# Altium schematic symbol library CustomParts.SchLib: 9 symbols
Pins are listed as number, name and electrical type; pins without a type are passive.

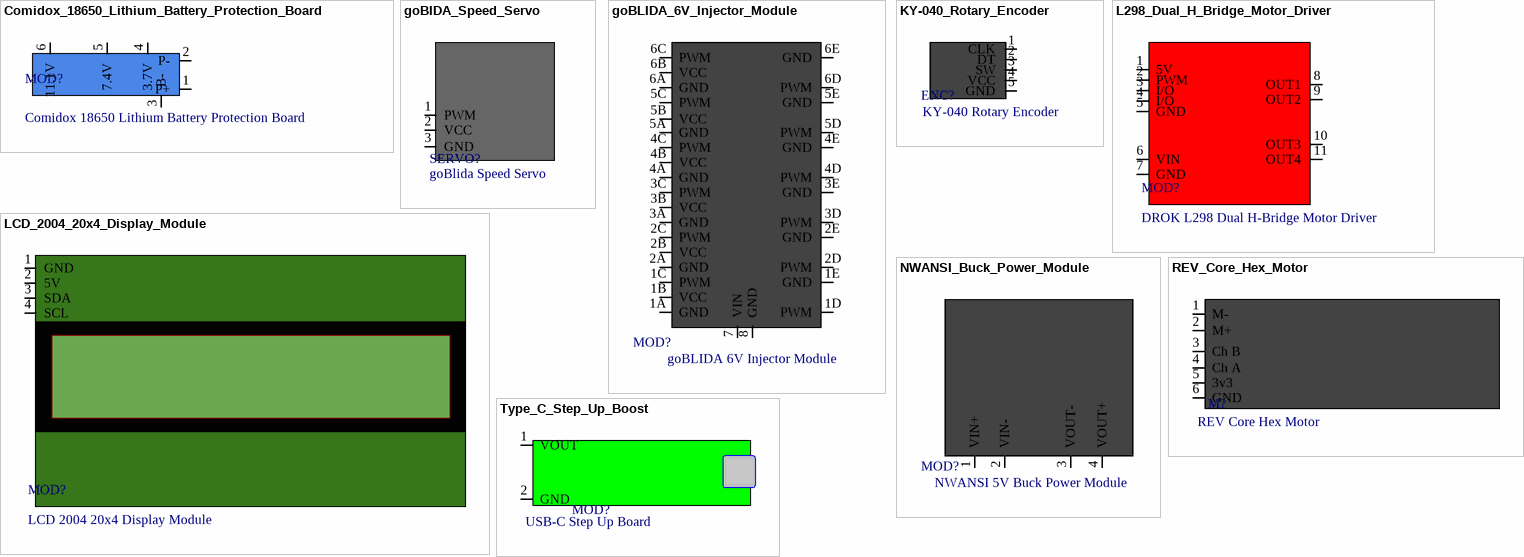
[diagram p0: symbols Comidox_18650_Lithium_Battery_Protection_Board to Type_C_Step_Up_Boost]

## Comidox_18650_Lithium_Battery_Protection_Board
designator MOD?, comment Comidox 18650 Lithium Battery Protection Board
3S 12V 10A 18650 Lithium Battery Protection Board
pins: 1 P+, 2 P-, 3 B-, 4 3.7V, 5 7.4V, 6 11.1V

## goBIDA_Speed_Servo
designator SERVO?, comment goBlida Speed Servo
Dual-Mode Servo (PWM/Continuous)
pins: 1 PWM, 2 VCC, 3 GND

## goBLIDA_6V_Injector_Module
designator MOD?, comment goBLIDA 6V Injector Module
8-15V Input to 6V 24A Injector Module
pins: 1A GND, 1B VCC, 1C PWM, 1D PWM, 1E GND, 2A GND, 2B VCC, 2C PWM, 2D PWM, 2E GND, 3A GND, 3B VCC, 3C PWM, 3D PWM, 3E GND, 4A GND, 4B VCC, 4C PWM, 4D PWM, 4E GND, 5A GND, 5B VCC, 5C PWM, 5D PWM, 5E GND, 6A GND, 6B VCC, 6C PWM, 6D PWM, 6E GND, 7 VIN, 8 GND

## KY-040_Rotary_Encoder
designator ENC?, comment KY-040 Rotary Encoder
5V Rotary Encoder Module 360 Degree Switch Encoder
pins: 1 CLK, 2 DT, 3 SW, 4 VCC, 5 GND

## L298_Dual_H_Bridge_Motor_Driver
designator MOD?, comment DROK L298 Dual H-Bridge Motor Driver
7A Dual DC Motor Controller Board (6.5V-27V Input, Optocoupler Isolated)
pins: 1 5V, 2 PWM, 3 I/O (io), 4 I/O (io), 5 GND, 6 VIN, 7 GND, 8 OUT1 (out), 9 OUT2 (out), 10 OUT3 (out), 11 OUT4 (out)

## LCD_2004_20x4_Display_Module
designator MOD?, comment LCD 2004 20x4 Display Module
LCD 2004 I2C (TWI) 20x4 Display Module
pins: 1 GND, 2 5V, 3 SDA, 4 SCL

## NWANSI_Buck_Power_Module
designator MOD?, comment NWANSI 5V Buck Power Module
DC 12/24V to 5V 3A/15W Power Converter Buck Power Module
pins: 1 VIN+ (in), 2 VIN- (in), 3 VOUT- (power), 4 VOUT+ (power)

## REV_Core_Hex_Motor
designator M?, comment REV Core Hex Motor
12 V DC Gear Motor with Integrated Encoder; ComponentLink1Description: Datasheet; ComponentLink1URL: https://www.revrobotics.com/rev-41-1300/
pins: 1 M-, 2 M+, 3 Ch B, 4 Ch A, 5 3v3, 6 GND

## Type_C_Step_Up_Boost
designator MOD?, comment USB-C Step Up Board
Converts USB C 5V to 12.6V
pins: 1 VOUT, 2 GND